# EAGLE library part MIC39101-* (library Microchip)
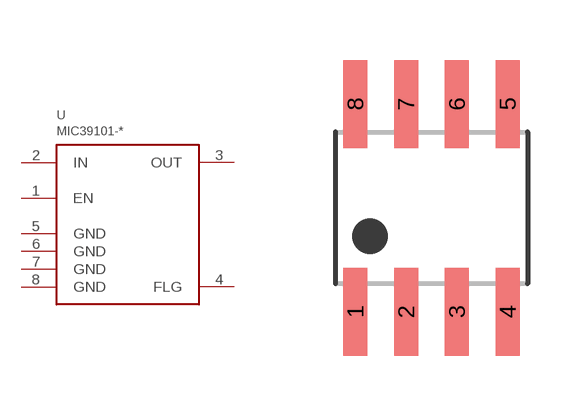
[diagram p11: symbol with the pads of SOIC8; footprint SOIC8]

Designator prefix U

## MIC39101-1.8, MIC39101-2.5, MIC39101-3.3, MIC39101-5.0  [SOIC8]
1  EN
2  IN
3  OUT
4  FLG
5  GND
6  GND
7  GND
8  GND

## Footprint SOIC8 (pad centres in mm)
smd 0.6 x 2.2: 1 -1.905,-2.6; 2 -0.635,-2.6; 3 0.635,-2.6; 4 1.905,-2.6; 5 1.905,2.6; 6 0.635,2.6; 7 -0.635,2.6; 8 -1.905,2.6